# EAGLE library part DMSVER. (library mbed-microcontroller)
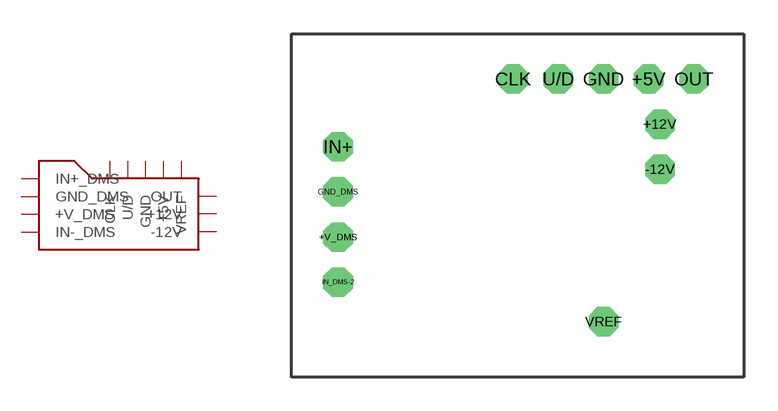
[diagram p17: symbol with the pads of DMS-VER; footprint DMS-VER]

Designator prefix -

## DMSVER.  [DMS-VER]
+5V  +5V
+12V  +12V
+V_DMS  +V_DMS
-12V  -12V
CLK  CLK
GND  GND
GND_DMS  GND_DMS
IN+  IN+_DMS
IN_DMS-2  IN-_DMS
OUT  OUT
U/D  U/D
VREF  VREF

## Footprint DMS-VER (pad centres in mm)
drill 0.8 octagon: +5V 7,7; +12V 7.5,5; +V_DMS -6.75,0; -12V 7.5,3; CLK 1,7; GND 5,7; GND_DMS -6.75,2; IN+ -6.75,4; IN_DMS-2 -6.75,-2; OUT 9,7; U/D 3,7; VREF 5,-3.75